# Altium footprint library ProtectionDevices.PCBLIB: 25 footprints (part 1 of 2)
Each footprint in its own frame and in the unit in brackets; x right, y up, seen from the top. Pads: shape width x height; smd on the part's side, far side on the other; paste and mask are expansions set on the pad; w line width, h text height; cw(c..) or ccw(c..) is an arc to the next point about the centre after c.
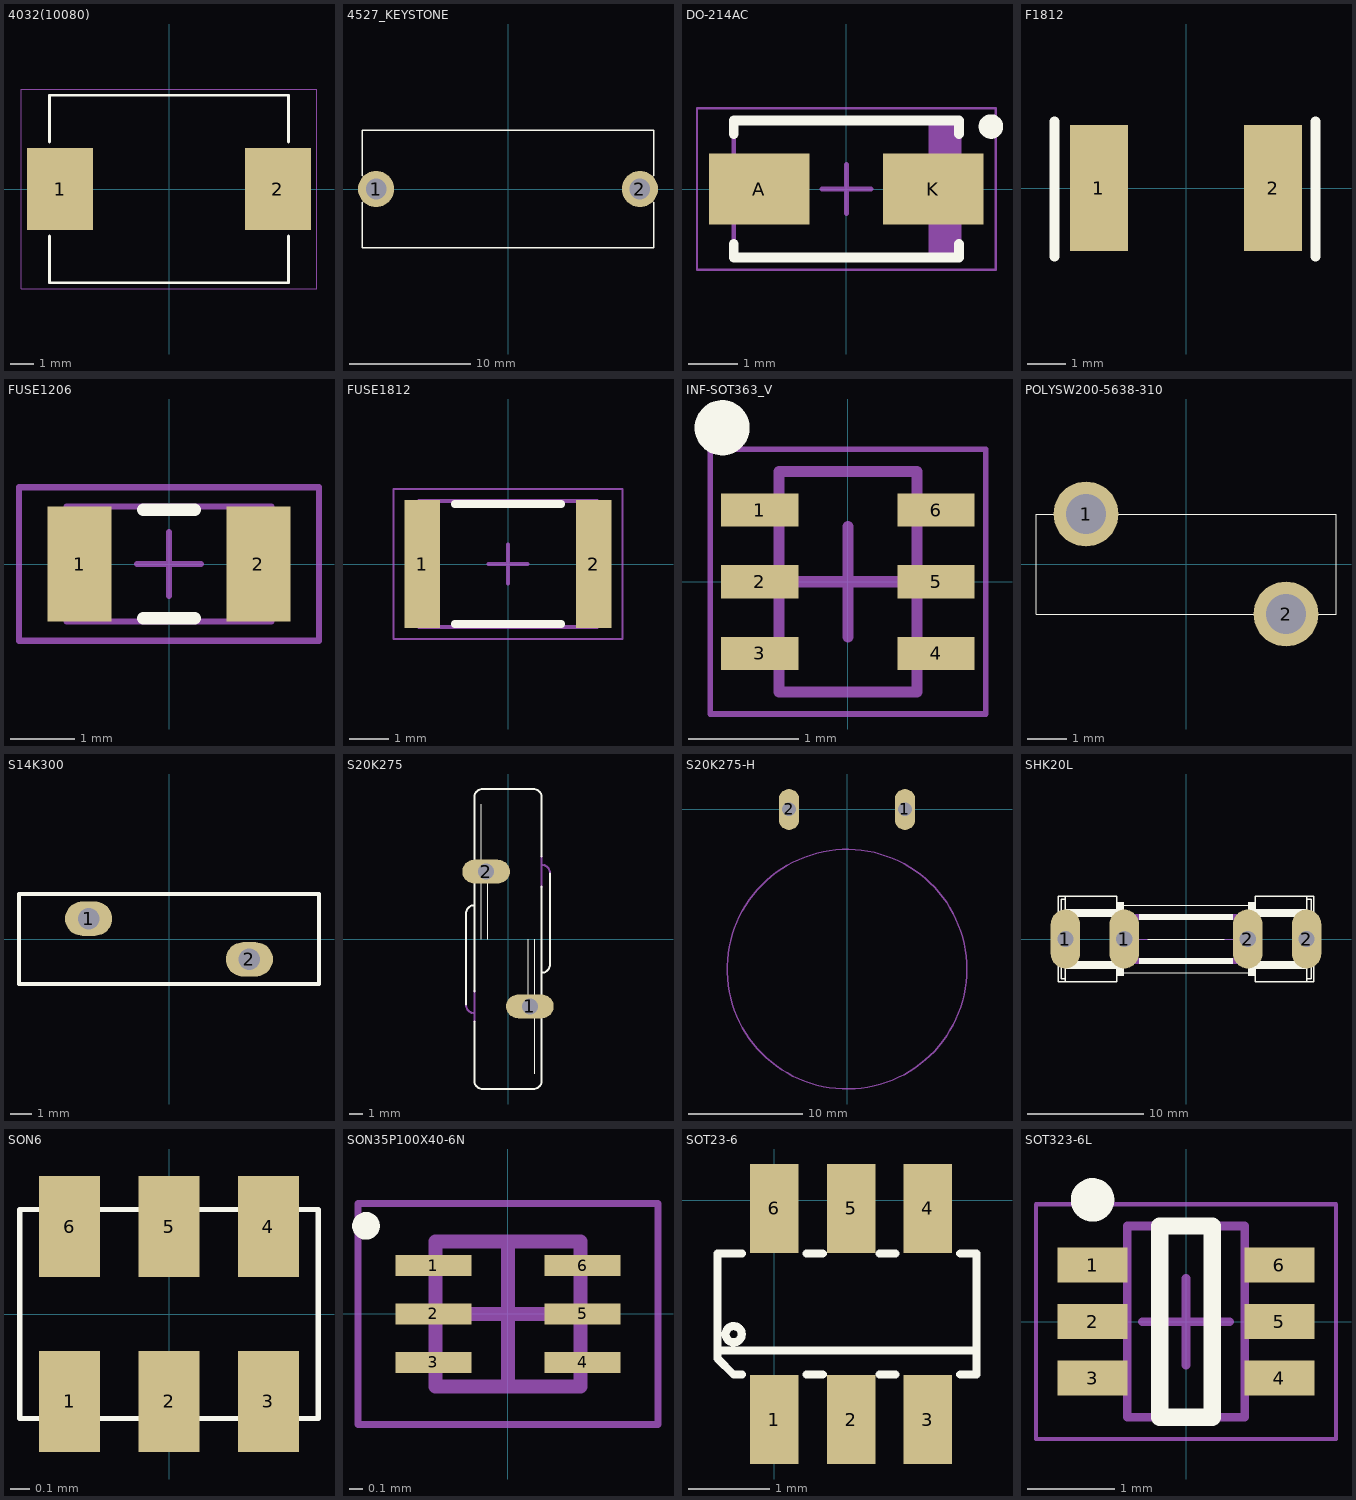
[diagram p0: the footprints below, top view; thin cyan lines are the x and y axes]

## 4032(10080) [mm]
pads (2):
  rect 2.8x3.5 smd mask+0.05: 1(-4.65,0) 2(4.65,0)
Top Overlay:
  lines w0.127: -5.1,-2 -5.1,-4 5.1,-4 5.1,-2 ; -5.1,2 -5.1,4 5.1,4 5.1,2
Mechanical 15:
  lines w0.05: -6.3,-4.25 6.3,-4.25 6.3,4.25 -6.3,4.25 -6.3,-4.25
3D body: height 4.5, standoff 0, extent -5.1,-4 5.1,4

## 4527_KEYSTONE [mm]
pads (2):
  round 3 hole 1.7: 1(-10.92,0) 2(10.92,0)
Top Overlay:
  lines w0.127: -12.08,-1.1 -12.08,-4.85 12.08,-4.85 12.08,-1.1 ; -12.08,1.11 -12.08,4.85 12.08,4.85 12.08,1.11
3D body "keystone-PN4527.STEP": height 10.35, standoff -4.61, extent -12.065,-4.826 12.09,4.877

## DO-214AC [mm] "Molded Diode, 2-Leads, Body 4,29x2,59mm, IPC Medium Density"
height 2.1
pads (2):
  rect 2.05x1.45 smd: A(-1.775,0) K(1.775,0)
Top Overlay:
  circle w0.25: c2.95,1.275 r0.125
  lines w0.2: -2.3,-1.125 -2.3,-1.4 2.3,-1.4 2.3,-1.125 ; -2.3,1.125 -2.3,1.4 2.3,1.4 2.3,1.125
Mechanical 13:
  rectangle: 1.681,-1.395 2.3,1.395
  lines w0.1: -2.3,-1.395 2.3,-1.395 2.3,1.395 -2.3,1.395 -2.3,-1.395
Mechanical 15:
  lines w0.05: -3.05,-1.65 3.05,-1.65 3.05,1.65 -3.05,1.65 -3.05,-1.65
  lines w0.1: -0.5,0 0.5,0 ; 0,-0.5 0,0.5
3D body "DO-214AC.step": height 2.1, standoff 0, extent -2.52,-1.395 2.52,1.395

## F1812 [mil]
height 106.3
pads (2):
  rect 60x130 smd: 1(-90,0) 2(90,0)
Top Overlay:
  lines w10: -135.83,-70.87 -135.83,68.9 ; 133.86,-70.87 133.86,68.9
3D body "User Library-fuse1812.step": height 51.97, standoff 0, extent -94.89,-63.38 94.88,63.39

## FUSE1206 [mm]
pads (2):
  rect 1x1.8 smd: 1(-1.4,0) 2(1.4,0)
Top Overlay:
  lines w0.2: -0.4,-0.85 0.4,-0.85 ; -0.4,0.85 0.4,0.85
Mechanical 13:
  lines w0.1: -1.6,-0.9 1.6,-0.9 1.6,0.9 -1.6,0.9 -1.6,-0.9
Mechanical 15:
  lines w0.1: -0.5,0 0.5,0 ; 0,-0.5 0,0.5 ; -2.35,-1.2 2.35,-1.2 2.35,1.2 -2.35,1.2 -2.35,-1.2
3D body "LFuse-1206-466.STEP": height 0.71, standoff 0, extent -1.64,-0.9 1.71,0.85

## FUSE1812 [mm]
height 0.55
pads (2):
  rect 0.9x3.25 smd: 1(-2.175,0) 2(2.175,0)
Top Overlay:
  lines w0.2: -1.35,-1.525 1.35,-1.525 ; -1.35,1.525 1.35,1.525
Mechanical 13:
  lines w0.1: -2.25,-1.6 -2.25,1.6 2.25,1.6 2.25,-1.6 -2.25,-1.6
Mechanical 15:
  lines w0.05: -2.9,-1.9 -2.9,1.9 2.9,1.9 2.9,-1.9 -2.9,-1.9
  lines w0.1: -0.5,0 0.5,0 ; 0,-0.5 0,0.5
3D body "User Library-1812L.step": height 1.34, standoff 0, extent -2.34,-1.705 2.39,1.705

## INF-SOT363_V [mm] "SOT23, 6-Leads, Body 2x1.25 mm, Pitch 0.65 mm"
height 1
pads (6):
  rect 0.7x0.3 smd: 1(-0.8,0.65) 2(-0.8,0) 3(-0.8,-0.65) 4(0.8,-0.65) 5(0.8,0) 6(0.8,0.65)
Top Overlay:
  circle w0.25: c-1.141,1.397 r0.125
Mechanical 13:
  lines w0.1: -0.625,-1 0.625,-1 0.625,1 -0.625,1 -0.625,-1
Mechanical 15:
  lines w0.05: -1.25,-1.2 1.25,-1.2 1.25,1.2 -1.25,1.2 -1.25,-1.2
  lines w0.1: -0.5,0 0.5,0 ; 0,-0.5 0,0.5
3D body: height 1, standoff 0.1, extent -0.625,-1 0.625,1

## POLYSW200-5638-310 [mil] "POLYSW200-5638-310"
pads (2):
  round 65 hole 40 mask+2: 1(-100,50) 2(100,-50)
Top Overlay:
  lines w1: -150,-50 150,-50 150,50 -150,50 -150,-50

## S14K300 [mm] "VARISTOR 470V 4.5KA DISC 14MM"
pads (2):
  oval 2.2x1.6 hole 1 unplated: 1(-3.75,0.95) 2(3.75,-0.95)
Top Overlay:
  lines w0.2: -7,-2.1 -7,2.1 7,2.1 7,-2.1 -7,-2.1
3D body "User Library-Varistor 14mm.step": height 20.5, standoff -2.5, extent -8.525,-2.8 8.475,2.8

## S20K275 [mil]
pads (2):
  oval 141x70.5 hole 47: 1(65,-200) 2(-65,200)
Top Overlay:
  lines w2: -80,0 -80,400 ; -60,0 -60,200 ; 60,-200 60,0 ; 80,-400 80,0
  lines w6: -125,-195 -125,75 cw(c-100,75) -100,100 ; -100,-245 -100,-420 ccw(c-75,-420) -75,-445 75,-445 ccw(c75,-420) 100,-420 100,155 ; -100,-155 -100,420 cw(c-75,420) -75,445 75,445 cw(c75,420) 100,420 100,245 ; 100,-100 ccw(c100,-75) 125,-75 125,195
Mechanical 16:
  lines w6: -125,-195 ccw(c-100,-195) -100,-220 ; -100,-245 -100,-220 ; -100,-155 -100,-220 ; 100,155 100,220 ; 100,245 100,220 ; 125,195 ccw(c100,195) 100,220
3D body "User Library-S20K275.step": height 1092.52, standoff -137.8, extent -104.36,-423.22 100.76,423.23

## S20K275-H [mil]
pads (2):
  oval 70.5x141 hole 47: 1(200,0) 2(-200,0)
Mechanical 1:
  circle w5: c0,-551.18 r413.39
3D body "VARIOSTOR ILIGHT.stp": height 633.43, standoff 31.07, extent -674.6,-1109.47 668.96,234.91

## SHK20L [mil]
pads (4):
  oval 100x200 hole 55.12: 1(-410,0) 1(-210,0) 2(210,0) 2(410,0)
Top Overlay:
  rectangle: -235,-125 -210,-80
  rectangle: -235,80 -210,125
  rectangle: 210,80 235,125
  rectangle: 210,-125 235,-80
  rectangle: -410,-100 -235,-80
  rectangle: -160,-85 160,-65
  rectangle: -160,65 160,85
  rectangle: 245,-80 370,-75
  rectangle: 245,75 370,80
  rectangle: 235,80 395,100
  rectangle: 235,-100 395,-80
  rectangle: -395,80 -235,100
  rectangle: -370,75 -245,80
  rectangle: -370,-80 -245,-75
  lines w2: -210,-115 210,-115 ; -210,115 210,115 ; -130,0 130,0
  lines w5: -435,-80 -435,-145 -410,-145 ; -435,80 -435,145 -410,145 ; -425,-80 -425,-135 -410,-135 ; -425,80 -425,135 -410,135 ; 425,-80 425,-135 410,-135 ; 425,80 425,135 410,135 ; 435,-80 435,-145 410,-145 ; 435,80 435,145 410,145 ; -410,-145 -410,-135 ; -410,-145 -235,-145 -235,-100 -410,-100 -410,-135 ; -410,135 -410,145 ; -410,135 -410,100 -235,100 -235,145 -410,145 ; 410,-145 235,-145 235,-100 410,-100 410,-135 ; 410,-145 410,-135 ; 410,135 410,145 ; 410,135 410,100 235,100 235,145 410,145
Mechanical 16:
  rectangle: -395,-80 -380,80
  rectangle: -235,-80 -210,80
  rectangle: 380,-80 395,80
  rectangle: 210,-80 235,80
  rectangle: 160,65 210,85
  rectangle: 160,-85 210,-65
  rectangle: -210,65 -160,85
  rectangle: -210,-85 -160,-65
  rectangle: -245,75 -235,80
  rectangle: 235,75 245,80
  rectangle: 235,-80 245,-75
  rectangle: 370,75 380,80
  rectangle: 370,-80 380,-75
  rectangle: -380,75 -370,80
  rectangle: -245,-80 -235,-75
  rectangle: -380,-80 -370,-75
  lines w2: -210,0 -130,0 ; 130,0 210,0
  lines w5: -435,-80 -435,-50 ; -435,80 -435,-50 ; -425,-80 -425,-50 ; -425,80 -425,-50 ; 425,-80 425,50 ; 425,80 425,50 ; 435,-80 435,50 ; 435,80 435,50 ; -435,-50 -425,-50 ; 425,50 435,50

## SON6 [mil] "U_6_DRY"
pads (6):
  rect 12x20 smd mask+2: 1(-19.68,-17.28) 2(0,-17.28) 3(19.68,-17.28) 4(19.68,17.28) 5(0,17.28) 6(-19.68,17.28)
Top Overlay:
  lines w1: -29.53,-20.67 -29.53,20.67 29.53,20.67 29.53,-20.67 -29.53,-20.67
3D body "SON6_1.step": height 23.62, standoff -1.97, extent -29.53,-22.64 29.53,22.64

## SON35P100X40-6N [mm] "SON, 6-Leads, Body 1,00x1,00mm, Pitch 0,35mm, IPC Medium Density"
height 0.4
pads (6):
  rect 0.55x0.15 smd: 1(-0.54,0.35) 2(-0.54,0) 3(-0.54,-0.35) 4(0.54,-0.35) 5(0.54,0) 6(0.54,0.35)
Top Overlay:
  circle w0.1: c-1.027,0.637 r0.05
Mechanical 13:
  lines w0.1: -0.525,-0.525 0.525,-0.525 0.525,0.525 -0.525,0.525 -0.525,-0.525
Mechanical 15:
  lines w0.05: -1.085,-0.8 1.085,-0.8 1.085,0.8 -1.085,0.8 -1.085,-0.8
  lines w0.1: -0.5,0 0.5,0 ; 0,-0.5 0,0.5
3D body "SON35P100X40-6N.step": height 0.4, standoff 0, extent -0.575,-0.525 0.575,0.525

## SOT23-6 [mm]
pads (6):
  rect 0.6x1.1 smd: 1(0,-2.708) 2(0.95,-2.708) 3(1.9,-2.708) 4(1.9,-0.1) 5(0.95,-0.1) 6(0,-0.1)
Top Overlay:
  circle w0.1: c-0.5,-1.654 r0.1
  lines w0.1: -0.4,-2.154 -0.5,-2.154 -0.7,-1.954 -0.7,-1.854 ; -0.4,-0.654 -0.7,-0.654 -0.7,-1.854 ; 0.4,-2.154 0.6,-2.154 ; 0.4,-0.654 0.6,-0.654 ; 1.3,-2.154 1.5,-2.154 ; 1.3,-0.654 1.5,-0.654 ; 2.3,-2.154 2.5,-2.154 2.5,-1.854 ; 2.3,-0.654 2.5,-0.654 2.5,-1.854 ; -0.7,-1.854 2.5,-1.854
3D body "User Library-SOT23-6-2.step": height 1.45, standoff 0, extent -0.501,-2.805 2.399,-0.005

## SOT323-6L [mm]
height 1.1
pads (6):
  rect 0.8x0.4 smd: 1(-1.075,0.65) 2(-1.075,0) 3(-1.075,-0.65) 4(1.075,-0.65) 5(1.075,0) 6(1.075,0.65)
Top Overlay:
  circle w0.25: c-1.075,1.4 r0.125
  lines w0.2: -0.3,-1.1 0.3,-1.1 0.3,1.1 -0.3,1.1 -0.3,-1.1
Mechanical 13:
  lines w0.1: -0.675,-1.1 -0.675,1.1 0.675,1.1 0.675,-1.1 -0.675,-1.1
Mechanical 15:
  lines w0.05: -1.725,-1.35 -1.725,1.35 1.725,1.35 1.725,-1.35 -1.725,-1.35
  lines w0.1: -0.5,0 0.5,0 ; 0,-0.5 0,0.5
3D body "SOT323-6L.step": height 1.1, standoff 0, extent -1.049,-1.1 1.049,1.1